# EAGLE library part PCB-MD03 (library dimrobotics)
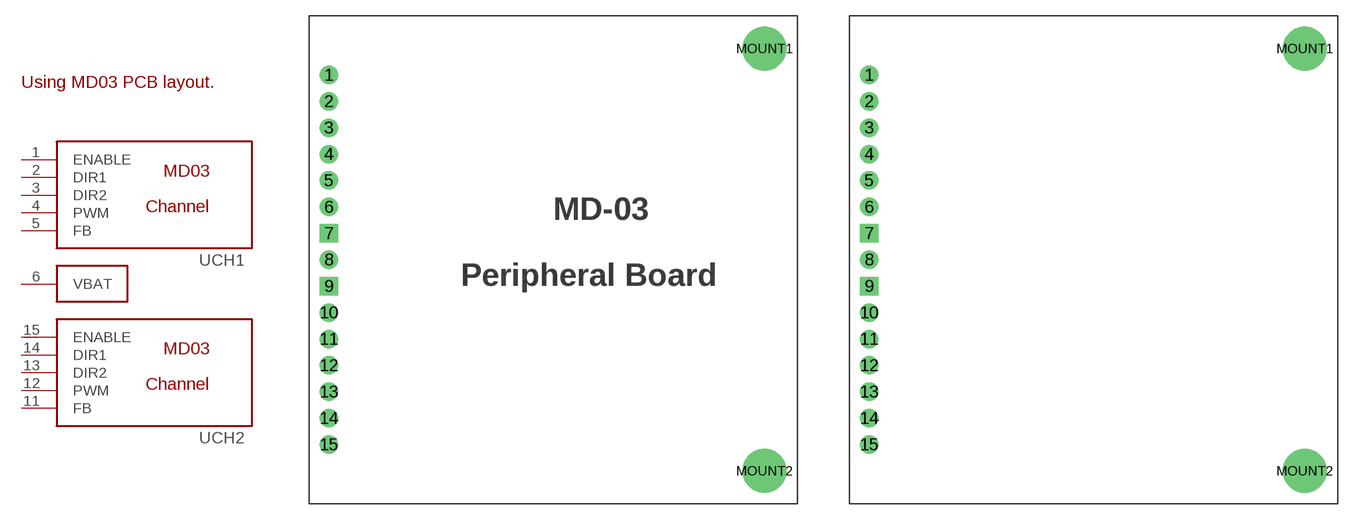
[diagram p5: symbol with the pads of MD03; footprints MD03, MD03-NAKED]

Designator prefix -; gates G$1=PCB-MD03 CH1=MD03-CHANNEL G$3=MD03-POWER CH2=MD03-CHANNEL

## PCB-MD03-SILK  [MD03]
1  CH1:ENABLE  in
2  CH1:DIR1  in
3  CH1:DIR2  in
4  CH1:PWM  in
5  CH1:FB  out
6  G$3:VBAT  pwr
7  G$1:GND  pwr
8  G$1:VCC  pwr
9  G$1:GND  pwr
10  G$3:VBAT  pwr
11  CH2:FB  out
12  CH2:PWM  in
13  CH2:DIR2  in
14  CH2:DIR1  in
15  CH2:ENABLE  in

## PCB-MD03-NOSILK  [MD03-NAKED]
Pads as for MD03

## Footprint MD03 (pad centres in mm)
drill 0.9 pad 1.778: 1 0,17.78; 2 0,15.24; 3 0,12.7; 4 0,10.16; 5 0,7.62; 6 0,5.08; 8 0,0; 10 0,-5.08; 11 0,-7.62; 12 0,-10.16; 13 0,-12.7; 14 0,-15.24; 15 0,-17.78
drill 0.9 pad 1.778 square: 7 0,2.54; 9 0,-2.54
drill 3.2 pad 3.81: MOUNT1 41.91,20.32; MOUNT2 41.91,-20.32

## Footprint MD03-NAKED (pad centres in mm)
drill 0.9 pad 1.778: 1 0,17.78; 2 0,15.24; 3 0,12.7; 4 0,10.16; 5 0,7.62; 6 0,5.08; 8 0,0; 10 0,-5.08; 11 0,-7.62; 12 0,-10.16; 13 0,-12.7; 14 0,-15.24; 15 0,-17.78
drill 0.9 pad 1.778 square: 7 0,2.54; 9 0,-2.54
drill 3.2 pad 3.81: MOUNT1 41.91,20.32; MOUNT2 41.91,-20.32